# EAGLE library part B10B-EH-A (library con-jst-eh)
HEADER
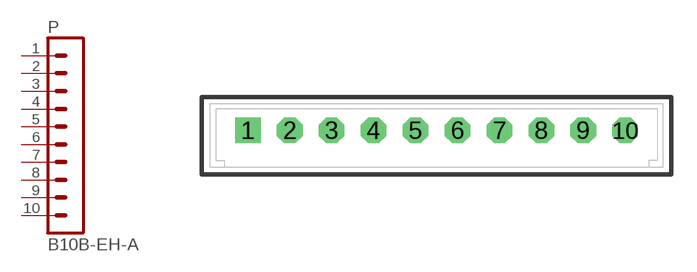
[diagram p4: symbol with the pads of B10B-EH-A; footprint B10B-EH-A]

Designator prefix P

## B10B-EH-A  [B10B-EH-A]
1  1  pas
2  2  pas
3  3  pas
4  4  pas
5  5  pas
6  6  pas
7  7  pas
8  8  pas
9  9  pas
10  10  pas

## Footprint B10B-EH-A (pad centres in mm)
HEADER
drill 1.016 square: 1 -11.25,0
drill 1.016 octagon: 2 -8.75,0; 3 -6.25,0; 4 -3.75,0; 5 -1.25,0; 6 1.25,0; 7 3.75,0; 8 6.25,0; 9 8.75,0; 10 11.25,0